# EAGLE library part RESISTOR-ARRAY (library SparkFun-Resistors)
Array Chip Resistor Source: RS Component / Phycomp
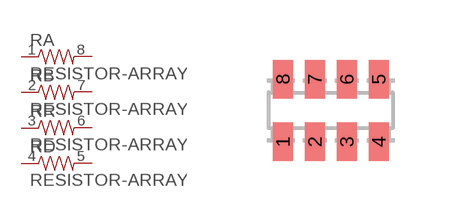
[diagram p0: symbol with the pads of 0603-ARV; footprint 0603-ARV]

Designator prefix R; gates A=RESISTOR-1 B=RESISTOR-1 R=RESISTOR-1 D=RESISTOR-1

## RESISTOR-ARRAY0603-ARV  [0603-ARV]
1  A:1  pas
2  B:1  pas
3  R:1  pas
4  D:1  pas
5  D:2  pas
6  R:2  pas
7  B:2  pas
8  A:2  pas

## Footprint 0603-ARV (pad centres in mm)
Chip Resistor Array size 4 × 0603 convex termination - Phycomp Components Source: RS Components
smd 0.5 x 0.968: 1 -1.2,-0.784; 2 -0.4,-0.784; 3 0.4,-0.784; 4 1.2,-0.784; 5 1.2,0.784; 6 0.4,0.784; 7 -0.4,0.784; 8 -1.2,0.784